# Altium schematic symbol library 电源监测电路.SCHLIB: 13 symbols
Pins are listed as number, name and electrical type; pins without a type are passive.

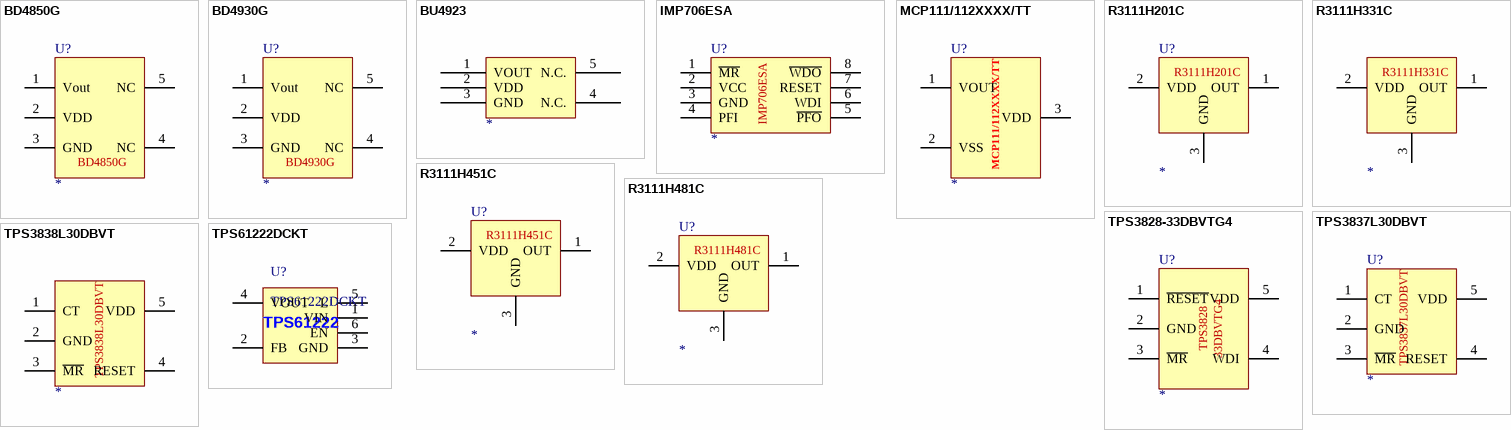
[diagram p0: symbols BD4850G to TPS61222DCKT]

## BD4850G
designator U?
footprint SSOP-5P
pins: 1 Vout (oe), 2 VDD (oe), 3 GND (oe), 4 NC (oe), 5 NC (oe)

## BD4930G
designator U?
footprint SSOP-5P
pins: 1 Vout (oe), 2 VDD (oe), 3 GND (oe), 4 NC (oe), 5 NC (oe)

## BU4923
designator ?
pins: 1 VOUT, 2 VDD, 3 GND, 4 N.C., 5 N.C.

## IMP706ESA
designator U?
footprint SOIC-8P
pins: 1 ~{MR} (oe), 2 VCC (oe), 3 GND (oe), 4 PFI (oe), 5 ~{PFO} (oe), 6 WDI (oe), 7 RESET (oe), 8 ~{WDO} (oe)

## MCP111/112XXXX/TT
designator U?
微功耗电压检测器
footprint SOT-23-3P
pins: 1 VOUT, 2 VSS, 3 VDD

## R3111H201C
designator U?
footprint SOT-89-4P
pins: 1 OUT (oe), 2 VDD (oe), 3 GND (oe), 4 VDD (oe)

## R3111H331C
designator ?
pins: 1 OUT (oe), 2 VDD (oe), 3 GND (oe), 4 VDD (oe)

## R3111H451C
designator U?
footprint SOT-89-4P
pins: 1 OUT (oe), 2 VDD (oe), 3 GND (oe), 4 VDD (oe)

## R3111H481C
designator U?
footprint SOT-89-4P
pins: 1 OUT (oe), 2 VDD (oe), 3 GND (oe), 4 VDD (oe)

## TPS3828-33DBVTG4
designator U?
footprint SOT-23-5P
pins: 1 ~{RESET} (oe), 2 GND (oe), 3 ~{MR} (oe), 4 WDI (oe), 5 VDD (oe)
text: TPS3828; 33DBVTG4

## TPS3837L30DBVT
designator U?
footprint SOT-23-5P
pins: 1 CT (oe), 2 GND (oe), 3 ~{MR} (oe), 4 RESET (oe), 5 VDD (oe)

## TPS3838L30DBVT
designator ?
pins: 1 CT (oe), 2 GND (oe), 3 ~{MR} (oe), 4 RESET (oe), 5 VDD (oe)

## TPS61222DCKT
designator U?
pins: 1 VIN, 2 FB, 3 GND, 4 VOUT, 5 L, 6 EN
text: TPS61222